# Altium schematic symbol library Regulator_Linear.SchLib: 1620 symbols (part 12 of 16)
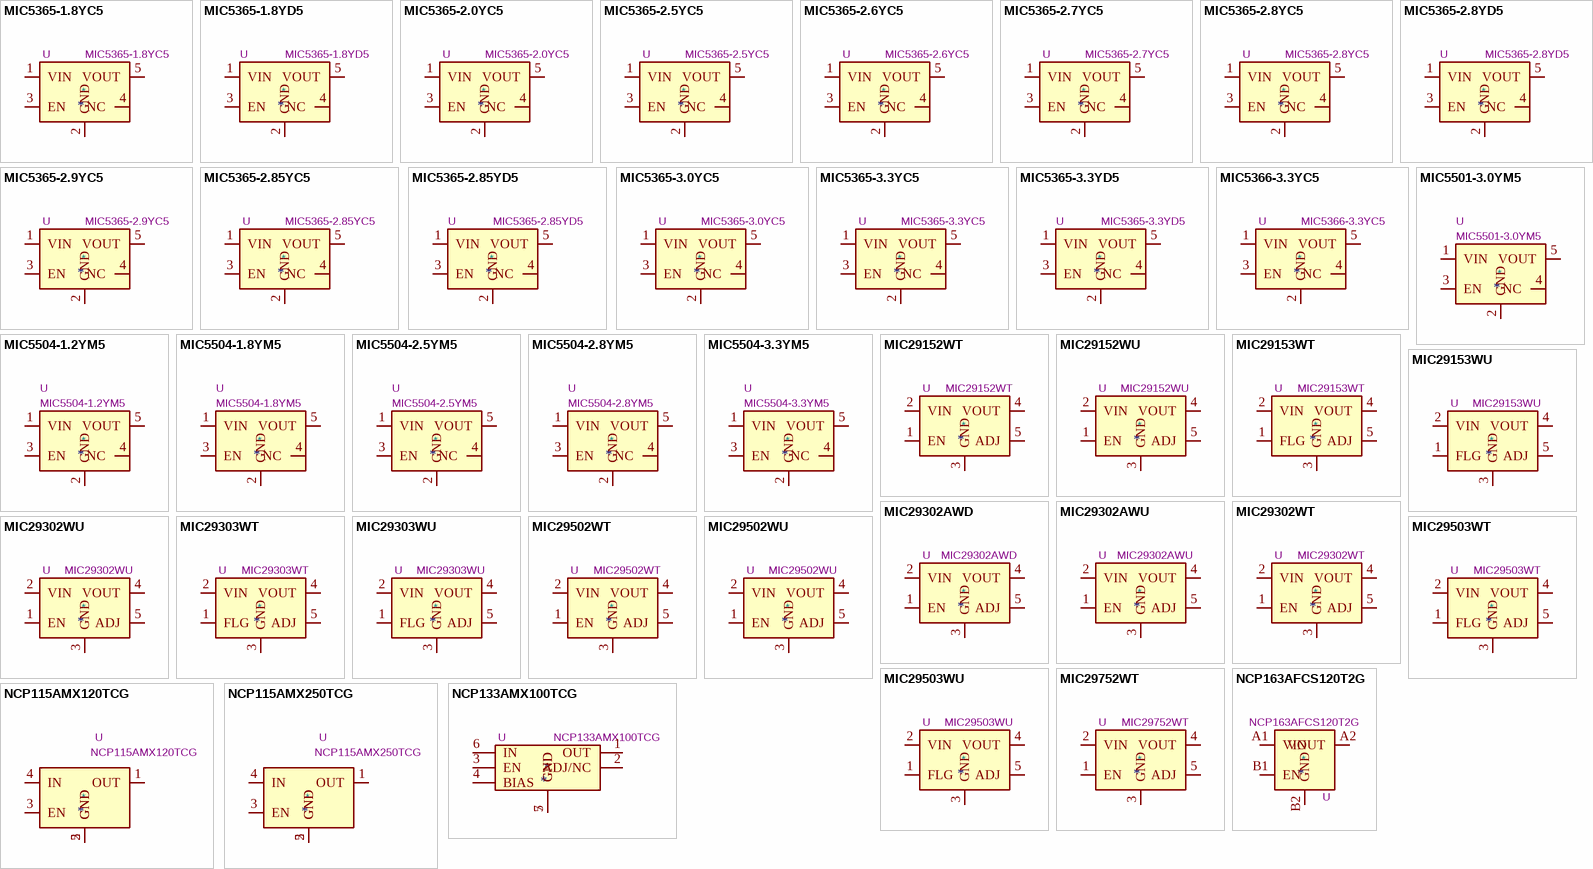
[diagram p51: symbols MIC5365-1.8YC5 to NCP163AFCS120T2G]

## MIC29503WT
designator *  value MIC29503WT  Reference: U
5A low dropout linear regulator, adjustable output, TO-220; ki_keywords: 5A LDO linear voltage regulator adjustable positive; ki_fp_filters: TO*220*; Footprint: Package_TO_SOT_THT:TO-220-5_P3.4x3.7mm_StaggerEven_Lead3.8mm_Vertical; Datasheet: http://ww1.microchip.com/downloads/en/devicedoc/20005685a.pdf; Description_: 5A low dropout linear regulator, adjustable output, TO-220
pins: 1 FLG, 2 VIN, 3 GND, 4 VOUT, 5 ADJ

## MIC29503WU
designator *  value MIC29503WU  Reference: U
5A low dropout linear regulator, adjustable output, TO-263; ki_keywords: 5A LDO linear voltage regulator adjustable positive; ki_fp_filters: TO*263*; Footprint: Package_TO_SOT_SMD:TO-263-5_TabPin3; Datasheet: http://ww1.microchip.com/downloads/en/devicedoc/20005685a.pdf; Description_: 5A low dropout linear regulator, adjustable output, TO-263
pins: 1 FLG, 2 VIN, 3 GND, 4 VOUT, 5 ADJ

## MIC29752WT
designator *  value MIC29752WT  Reference: U
7.5A low dropout linear regulator, adjustable output, TO-247; ki_keywords: 7.5A LDO linear voltage regulator adjustable positive; ki_fp_filters: TO*247*; Footprint: Package_TO_SOT_THT:TO-247-5_Vertical; Datasheet: http://ww1.microchip.com/downloads/en/devicedoc/20005685a.pdf; Description_: 7.5A low dropout linear regulator, adjustable output, TO-247
pins: 1 EN, 2 VIN, 3 GND, 4 VOUT, 5 ADJ

## NCP115AMX120TCG
designator *  value NCP115AMX120TCG  Reference: U
300mA Low-Dropout Linear Regulators, 1.2V output voltage, LDO with low noise and enable pin, XDFN-4; ki_keywords: Single Output LDO; ki_fp_filters: OnSemi*XDFN4*1EP*1.0x1.0mm*; Footprint: Package_DFN_QFN:OnSemi_XDFN4-1EP_1.0x1.0mm_EP0.52x0.52mm; Datasheet: https://www.onsemi.com/pub/Collateral/NCP115-D.PDF; Description_: 300mA Low-Dropout Linear Regulators, 1.2V output voltage, LDO with low noise and enable pin, XDFN-4
pins: 1 OUT, 2 GND, 3 EN, 4 IN, 5 GND

## NCP115AMX250TCG
designator *  value NCP115AMX250TCG  Reference: U
300mA Low-Dropout Linear Regulators, 2.5V output voltage, LDO with low noise and enable pin, XDFN-4; ki_keywords: Single Output LDO; ki_fp_filters: OnSemi*XDFN4*1EP*1.0x1.0mm*; Footprint: Package_DFN_QFN:OnSemi_XDFN4-1EP_1.0x1.0mm_EP0.52x0.52mm; Datasheet: https://www.onsemi.com/pub/Collateral/NCP115-D.PDF; Description_: 300mA Low-Dropout Linear Regulators, 2.5V output voltage, LDO with low noise and enable pin, XDFN-4
pins: 1 OUT, 2 GND, 3 EN, 4 IN, 5 GND

## NCP133AMX100TCG
designator *  value NCP133AMX100TCG  Reference: U
500  mA  VLDO  equipped  with  NMOS  pass transistor  and  a  separate  bias  supply  voltage; ki_keywords: Single Output LDO; ki_fp_filters: DFN?6?1EP*1.2x1.2mm*P0.4mm*; Datasheet: http://www.onsemi.com/pub/Collateral/NCP133-D.PDF; Description_: 500  mA  VLDO  equipped  with  NMOS  pass transistor  and  a  separate  bias  supply  voltage
pins: 1 OUT, 2 ADJ/NC, 3 EN, 4 BIAS, 5 GND, 6 IN, 7 GND

## NCP163AFCS120T2G
designator *  value NCP163AFCS120T2G  Reference: U
250mA low-noise LDO, 2.2V-5.5V input, 1.2V output, WLCSP-4; ki_keywords: LDO regulator voltage; ki_fp_filters: WLCSP*0.64x0.64mm*Layout2x2*P0.35mm*; Footprint: Package_CSP:WLCSP-4_0.64x0.64mm_Layout2x2_P0.35mm; Datasheet: https://www.onsemi.com/pdf/datasheet/ncp163-d.pdf; Description_: 250mA low-noise LDO, 2.2V-5.5V input, 1.2V output, WLCSP-4
pins: A1 VIN, A2 VOUT, B1 EN, B2 GND

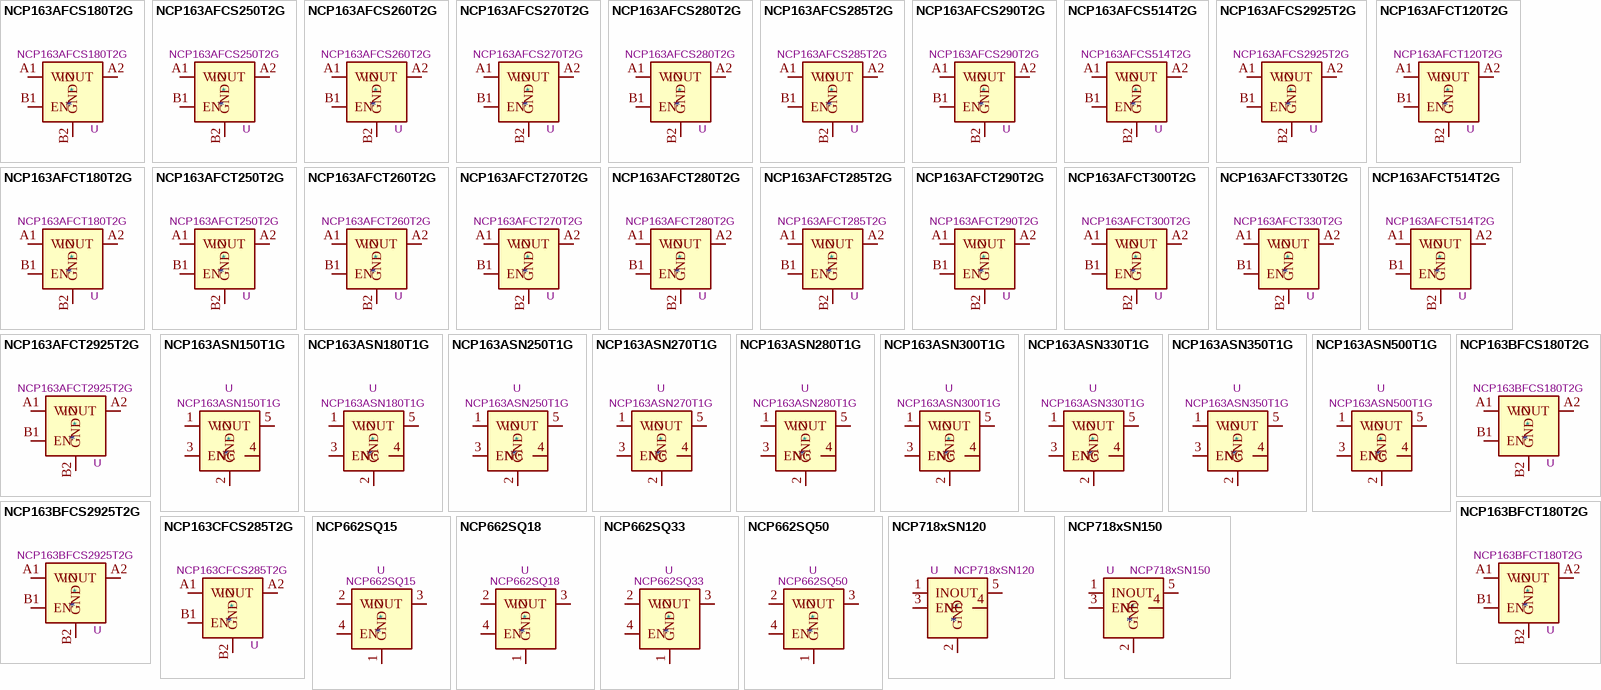
[diagram p29: symbols NCP163AFCS180T2G to NCP718xSN150]

## NCP163AFCS180T2G
designator *  value NCP163AFCS180T2G  Reference: U
250mA low-noise LDO, 2.2V-5.5V input, 1.8V output, WLCSP-4; ki_keywords: LDO regulator voltage; ki_fp_filters: WLCSP*0.64x0.64mm*Layout2x2*P0.35mm*; Footprint: Package_CSP:WLCSP-4_0.64x0.64mm_Layout2x2_P0.35mm; Datasheet: https://www.onsemi.com/pdf/datasheet/ncp163-d.pdf; Description_: 250mA low-noise LDO, 2.2V-5.5V input, 1.8V output, WLCSP-4
pins: A1 VIN, A2 VOUT, B1 EN, B2 GND

## NCP163AFCS250T2G
designator *  value NCP163AFCS250T2G  Reference: U
250mA low-noise LDO, 2.2V-5.5V input, 2.5V output, WLCSP-4; ki_keywords: LDO regulator voltage; ki_fp_filters: WLCSP*0.64x0.64mm*Layout2x2*P0.35mm*; Footprint: Package_CSP:WLCSP-4_0.64x0.64mm_Layout2x2_P0.35mm; Datasheet: https://www.onsemi.com/pdf/datasheet/ncp163-d.pdf; Description_: 250mA low-noise LDO, 2.2V-5.5V input, 2.5V output, WLCSP-4
pins: A1 VIN, A2 VOUT, B1 EN, B2 GND

## NCP163AFCS260T2G
designator *  value NCP163AFCS260T2G  Reference: U
250mA low-noise LDO, 2.2V-5.5V input, 2.6V output, WLCSP-4; ki_keywords: LDO regulator voltage; ki_fp_filters: WLCSP*0.64x0.64mm*Layout2x2*P0.35mm*; Footprint: Package_CSP:WLCSP-4_0.64x0.64mm_Layout2x2_P0.35mm; Datasheet: https://www.onsemi.com/pdf/datasheet/ncp163-d.pdf; Description_: 250mA low-noise LDO, 2.2V-5.5V input, 2.6V output, WLCSP-4
pins: A1 VIN, A2 VOUT, B1 EN, B2 GND

## NCP163AFCS270T2G
designator *  value NCP163AFCS270T2G  Reference: U
250mA low-noise LDO, 2.2V-5.5V input, 2.7V output, WLCSP-4; ki_keywords: LDO regulator voltage; ki_fp_filters: WLCSP*0.64x0.64mm*Layout2x2*P0.35mm*; Footprint: Package_CSP:WLCSP-4_0.64x0.64mm_Layout2x2_P0.35mm; Datasheet: https://www.onsemi.com/pdf/datasheet/ncp163-d.pdf; Description_: 250mA low-noise LDO, 2.2V-5.5V input, 2.7V output, WLCSP-4
pins: A1 VIN, A2 VOUT, B1 EN, B2 GND

## NCP163AFCS280T2G
designator *  value NCP163AFCS280T2G  Reference: U
250mA low-noise LDO, 2.2V-5.5V input, 2.8V output, WLCSP-4; ki_keywords: LDO regulator voltage; ki_fp_filters: WLCSP*0.64x0.64mm*Layout2x2*P0.35mm*; Footprint: Package_CSP:WLCSP-4_0.64x0.64mm_Layout2x2_P0.35mm; Datasheet: https://www.onsemi.com/pdf/datasheet/ncp163-d.pdf; Description_: 250mA low-noise LDO, 2.2V-5.5V input, 2.8V output, WLCSP-4
pins: A1 VIN, A2 VOUT, B1 EN, B2 GND

## NCP163AFCS285T2G
designator *  value NCP163AFCS285T2G  Reference: U
250mA low-noise LDO, 2.2V-5.5V input, 2.85V output, WLCSP-4; ki_keywords: LDO regulator voltage; ki_fp_filters: WLCSP*0.64x0.64mm*Layout2x2*P0.35mm*; Footprint: Package_CSP:WLCSP-4_0.64x0.64mm_Layout2x2_P0.35mm; Datasheet: https://www.onsemi.com/pdf/datasheet/ncp163-d.pdf; Description_: 250mA low-noise LDO, 2.2V-5.5V input, 2.85V output, WLCSP-4
pins: A1 VIN, A2 VOUT, B1 EN, B2 GND

## NCP163AFCS290T2G
designator *  value NCP163AFCS290T2G  Reference: U
250mA low-noise LDO, 2.2V-5.5V input, 2.9V output, WLCSP-4; ki_keywords: LDO regulator voltage; ki_fp_filters: WLCSP*0.64x0.64mm*Layout2x2*P0.35mm*; Footprint: Package_CSP:WLCSP-4_0.64x0.64mm_Layout2x2_P0.35mm; Datasheet: https://www.onsemi.com/pdf/datasheet/ncp163-d.pdf; Description_: 250mA low-noise LDO, 2.2V-5.5V input, 2.9V output, WLCSP-4
pins: A1 VIN, A2 VOUT, B1 EN, B2 GND

## NCP163AFCS514T2G
designator *  value NCP163AFCS514T2G  Reference: U
250mA low-noise LDO, 2.2V-5.5V input, 5.14V output, WLCSP-4; ki_keywords: LDO regulator voltage; ki_fp_filters: WLCSP*0.64x0.64mm*Layout2x2*P0.35mm*; Footprint: Package_CSP:WLCSP-4_0.64x0.64mm_Layout2x2_P0.35mm; Datasheet: https://www.onsemi.com/pdf/datasheet/ncp163-d.pdf; Description_: 250mA low-noise LDO, 2.2V-5.5V input, 5.14V output, WLCSP-4
pins: A1 VIN, A2 VOUT, B1 EN, B2 GND

## NCP163AFCS2925T2G
designator *  value NCP163AFCS2925T2G  Reference: U
250mA low-noise LDO, 2.2V-5.5V input, 2.925V output, WLCSP-4; ki_keywords: LDO regulator voltage; ki_fp_filters: WLCSP*0.64x0.64mm*Layout2x2*P0.35mm*; Footprint: Package_CSP:WLCSP-4_0.64x0.64mm_Layout2x2_P0.35mm; Datasheet: https://www.onsemi.com/pdf/datasheet/ncp163-d.pdf; Description_: 250mA low-noise LDO, 2.2V-5.5V input, 2.925V output, WLCSP-4
pins: A1 VIN, A2 VOUT, B1 EN, B2 GND

## NCP163AFCT120T2G
designator *  value NCP163AFCT120T2G  Reference: U
250mA low-noise LDO, 2.2V-5.5V input, 1.2V output, WLCSP-4; ki_keywords: LDO regulator voltage; ki_fp_filters: WLCSP*0.64x0.64mm*Layout2x2*P0.35mm*; Footprint: Package_CSP:WLCSP-4_0.64x0.64mm_Layout2x2_P0.35mm; Datasheet: https://www.onsemi.com/pdf/datasheet/ncp163-d.pdf; Description_: 250mA low-noise LDO, 2.2V-5.5V input, 1.2V output, WLCSP-4
pins: A1 VIN, A2 VOUT, B1 EN, B2 GND

## NCP163AFCT180T2G
designator *  value NCP163AFCT180T2G  Reference: U
250mA low-noise LDO, 2.2V-5.5V input, 1.8V output, WLCSP-4; ki_keywords: LDO regulator voltage; ki_fp_filters: WLCSP*0.64x0.64mm*Layout2x2*P0.35mm*; Footprint: Package_CSP:WLCSP-4_0.64x0.64mm_Layout2x2_P0.35mm; Datasheet: https://www.onsemi.com/pdf/datasheet/ncp163-d.pdf; Description_: 250mA low-noise LDO, 2.2V-5.5V input, 1.8V output, WLCSP-4
pins: A1 VIN, A2 VOUT, B1 EN, B2 GND

## NCP163AFCT250T2G
designator *  value NCP163AFCT250T2G  Reference: U
250mA low-noise LDO, 2.2V-5.5V input, 2.5V output, WLCSP-4; ki_keywords: LDO regulator voltage; ki_fp_filters: WLCSP*0.64x0.64mm*Layout2x2*P0.35mm*; Footprint: Package_CSP:WLCSP-4_0.64x0.64mm_Layout2x2_P0.35mm; Datasheet: https://www.onsemi.com/pdf/datasheet/ncp163-d.pdf; Description_: 250mA low-noise LDO, 2.2V-5.5V input, 2.5V output, WLCSP-4
pins: A1 VIN, A2 VOUT, B1 EN, B2 GND

## NCP163AFCT260T2G
designator *  value NCP163AFCT260T2G  Reference: U
250mA low-noise LDO, 2.2V-5.5V input, 2.6V output, WLCSP-4; ki_keywords: LDO regulator voltage; ki_fp_filters: WLCSP*0.64x0.64mm*Layout2x2*P0.35mm*; Footprint: Package_CSP:WLCSP-4_0.64x0.64mm_Layout2x2_P0.35mm; Datasheet: https://www.onsemi.com/pdf/datasheet/ncp163-d.pdf; Description_: 250mA low-noise LDO, 2.2V-5.5V input, 2.6V output, WLCSP-4
pins: A1 VIN, A2 VOUT, B1 EN, B2 GND

## NCP163AFCT270T2G
designator *  value NCP163AFCT270T2G  Reference: U
250mA low-noise LDO, 2.2V-5.5V input, 2.7V output, WLCSP-4; ki_keywords: LDO regulator voltage; ki_fp_filters: WLCSP*0.64x0.64mm*Layout2x2*P0.35mm*; Footprint: Package_CSP:WLCSP-4_0.64x0.64mm_Layout2x2_P0.35mm; Datasheet: https://www.onsemi.com/pdf/datasheet/ncp163-d.pdf; Description_: 250mA low-noise LDO, 2.2V-5.5V input, 2.7V output, WLCSP-4
pins: A1 VIN, A2 VOUT, B1 EN, B2 GND

## NCP163AFCT280T2G
designator *  value NCP163AFCT280T2G  Reference: U
250mA low-noise LDO, 2.2V-5.5V input, 2.8V output, WLCSP-4; ki_keywords: LDO regulator voltage; ki_fp_filters: WLCSP*0.64x0.64mm*Layout2x2*P0.35mm*; Footprint: Package_CSP:WLCSP-4_0.64x0.64mm_Layout2x2_P0.35mm; Datasheet: https://www.onsemi.com/pdf/datasheet/ncp163-d.pdf; Description_: 250mA low-noise LDO, 2.2V-5.5V input, 2.8V output, WLCSP-4
pins: A1 VIN, A2 VOUT, B1 EN, B2 GND

## NCP163AFCT285T2G
designator *  value NCP163AFCT285T2G  Reference: U
250mA low-noise LDO, 2.2V-5.5V input, 2.85V output, WLCSP-4; ki_keywords: LDO regulator voltage; ki_fp_filters: WLCSP*0.64x0.64mm*Layout2x2*P0.35mm*; Footprint: Package_CSP:WLCSP-4_0.64x0.64mm_Layout2x2_P0.35mm; Datasheet: https://www.onsemi.com/pdf/datasheet/ncp163-d.pdf; Description_: 250mA low-noise LDO, 2.2V-5.5V input, 2.85V output, WLCSP-4
pins: A1 VIN, A2 VOUT, B1 EN, B2 GND

## NCP163AFCT290T2G
designator *  value NCP163AFCT290T2G  Reference: U
250mA low-noise LDO, 2.2V-5.5V input, 2.9V output, WLCSP-4; ki_keywords: LDO regulator voltage; ki_fp_filters: WLCSP*0.64x0.64mm*Layout2x2*P0.35mm*; Footprint: Package_CSP:WLCSP-4_0.64x0.64mm_Layout2x2_P0.35mm; Datasheet: https://www.onsemi.com/pdf/datasheet/ncp163-d.pdf; Description_: 250mA low-noise LDO, 2.2V-5.5V input, 2.9V output, WLCSP-4
pins: A1 VIN, A2 VOUT, B1 EN, B2 GND

## NCP163AFCT300T2G
designator *  value NCP163AFCT300T2G  Reference: U
250mA low-noise LDO, 2.2V-5.5V input, 3.0V output, WLCSP-4; ki_keywords: LDO regulator voltage; ki_fp_filters: WLCSP*0.64x0.64mm*Layout2x2*P0.35mm*; Footprint: Package_CSP:WLCSP-4_0.64x0.64mm_Layout2x2_P0.35mm; Datasheet: https://www.onsemi.com/pdf/datasheet/ncp163-d.pdf; Description_: 250mA low-noise LDO, 2.2V-5.5V input, 3.0V output, WLCSP-4
pins: A1 VIN, A2 VOUT, B1 EN, B2 GND

## NCP163AFCT330T2G
designator *  value NCP163AFCT330T2G  Reference: U
250mA low-noise LDO, 2.2V-5.5V input, 3.3V output, WLCSP-4; ki_keywords: LDO regulator voltage; ki_fp_filters: WLCSP*0.64x0.64mm*Layout2x2*P0.35mm*; Footprint: Package_CSP:WLCSP-4_0.64x0.64mm_Layout2x2_P0.35mm; Datasheet: https://www.onsemi.com/pdf/datasheet/ncp163-d.pdf; Description_: 250mA low-noise LDO, 2.2V-5.5V input, 3.3V output, WLCSP-4
pins: A1 VIN, A2 VOUT, B1 EN, B2 GND

## NCP163AFCT514T2G
designator *  value NCP163AFCT514T2G  Reference: U
250mA low-noise LDO, 2.2V-5.5V input, 5.14V output, WLCSP-4; ki_keywords: LDO regulator voltage; ki_fp_filters: WLCSP*0.64x0.64mm*Layout2x2*P0.35mm*; Footprint: Package_CSP:WLCSP-4_0.64x0.64mm_Layout2x2_P0.35mm; Datasheet: https://www.onsemi.com/pdf/datasheet/ncp163-d.pdf; Description_: 250mA low-noise LDO, 2.2V-5.5V input, 5.14V output, WLCSP-4
pins: A1 VIN, A2 VOUT, B1 EN, B2 GND

## NCP163AFCT2925T2G
designator *  value NCP163AFCT2925T2G  Reference: U
250mA low-noise LDO, 2.2V-5.5V input, 2.925V output, WLCSP-4; ki_keywords: LDO regulator voltage; ki_fp_filters: WLCSP*0.64x0.64mm*Layout2x2*P0.35mm*; Footprint: Package_CSP:WLCSP-4_0.64x0.64mm_Layout2x2_P0.35mm; Datasheet: https://www.onsemi.com/pdf/datasheet/ncp163-d.pdf; Description_: 250mA low-noise LDO, 2.2V-5.5V input, 2.925V output, WLCSP-4
pins: A1 VIN, A2 VOUT, B1 EN, B2 GND

## NCP163ASN150T1G
designator *  value NCP163ASN150T1G  Reference: U
250mA low-noise LDO, 2.2V-5.5V input, 1.5V output, SOT-23-5; ki_keywords: LDO regulator voltage; ki_fp_filters: SOT?23*; Footprint: Package_TO_SOT_SMD:SOT-23-5; Datasheet: https://www.onsemi.com/pdf/datasheet/ncp163-d.pdf; Description_: 250mA low-noise LDO, 2.2V-5.5V input, 1.5V output, SOT-23-5
pins: 1 VIN, 2 GND, 3 EN, 4 NC, 5 VOUT

## NCP163ASN180T1G
designator *  value NCP163ASN180T1G  Reference: U
250mA low-noise LDO, 2.2V-5.5V input, 1.8V output, SOT-23-5; ki_keywords: LDO regulator voltage; ki_fp_filters: SOT?23*; Footprint: Package_TO_SOT_SMD:SOT-23-5; Datasheet: https://www.onsemi.com/pdf/datasheet/ncp163-d.pdf; Description_: 250mA low-noise LDO, 2.2V-5.5V input, 1.8V output, SOT-23-5
pins: 1 VIN, 2 GND, 3 EN, 4 NC, 5 VOUT

## NCP163ASN250T1G
designator *  value NCP163ASN250T1G  Reference: U
250mA low-noise LDO, 2.2V-5.5V input, 2.5V output, SOT-23-5; ki_keywords: LDO regulator voltage; ki_fp_filters: SOT?23*; Footprint: Package_TO_SOT_SMD:SOT-23-5; Datasheet: https://www.onsemi.com/pdf/datasheet/ncp163-d.pdf; Description_: 250mA low-noise LDO, 2.2V-5.5V input, 2.5V output, SOT-23-5
pins: 1 VIN, 2 GND, 3 EN, 4 NC, 5 VOUT

## NCP163ASN270T1G
designator *  value NCP163ASN270T1G  Reference: U
250mA low-noise LDO, 2.2V-5.5V input, 2.7V output, SOT-23-5; ki_keywords: LDO regulator voltage; ki_fp_filters: SOT?23*; Footprint: Package_TO_SOT_SMD:SOT-23-5; Datasheet: https://www.onsemi.com/pdf/datasheet/ncp163-d.pdf; Description_: 250mA low-noise LDO, 2.2V-5.5V input, 2.7V output, SOT-23-5
pins: 1 VIN, 2 GND, 3 EN, 4 NC, 5 VOUT

## NCP163ASN280T1G
designator *  value NCP163ASN280T1G  Reference: U
250mA low-noise LDO, 2.2V-5.5V input, 2.8V output, SOT-23-5; ki_keywords: LDO regulator voltage; ki_fp_filters: SOT?23*; Footprint: Package_TO_SOT_SMD:SOT-23-5; Datasheet: https://www.onsemi.com/pdf/datasheet/ncp163-d.pdf; Description_: 250mA low-noise LDO, 2.2V-5.5V input, 2.8V output, SOT-23-5
pins: 1 VIN, 2 GND, 3 EN, 4 NC, 5 VOUT

## NCP163ASN300T1G
designator *  value NCP163ASN300T1G  Reference: U
250mA low-noise LDO, 2.2V-5.5V input, 3.0V output, SOT-23-5; ki_keywords: LDO regulator voltage; ki_fp_filters: SOT?23*; Footprint: Package_TO_SOT_SMD:SOT-23-5; Datasheet: https://www.onsemi.com/pdf/datasheet/ncp163-d.pdf; Description_: 250mA low-noise LDO, 2.2V-5.5V input, 3.0V output, SOT-23-5
pins: 1 VIN, 2 GND, 3 EN, 4 NC, 5 VOUT

## NCP163ASN330T1G
designator *  value NCP163ASN330T1G  Reference: U
250mA low-noise LDO, 2.2V-5.5V input, 3.3V output, SOT-23-5; ki_keywords: LDO regulator voltage; ki_fp_filters: SOT?23*; Footprint: Package_TO_SOT_SMD:SOT-23-5; Datasheet: https://www.onsemi.com/pdf/datasheet/ncp163-d.pdf; Description_: 250mA low-noise LDO, 2.2V-5.5V input, 3.3V output, SOT-23-5
pins: 1 VIN, 2 GND, 3 EN, 4 NC, 5 VOUT

## NCP163ASN350T1G
designator *  value NCP163ASN350T1G  Reference: U
250mA low-noise LDO, 2.2V-5.5V input, 3.5V output, SOT-23-5; ki_keywords: LDO regulator voltage; ki_fp_filters: SOT?23*; Footprint: Package_TO_SOT_SMD:SOT-23-5; Datasheet: https://www.onsemi.com/pdf/datasheet/ncp163-d.pdf; Description_: 250mA low-noise LDO, 2.2V-5.5V input, 3.5V output, SOT-23-5
pins: 1 VIN, 2 GND, 3 EN, 4 NC, 5 VOUT

## NCP163ASN500T1G
designator *  value NCP163ASN500T1G  Reference: U
250mA low-noise LDO, 2.2V-5.5V input, 5.0V output, SOT-23-5; ki_keywords: LDO regulator voltage; ki_fp_filters: SOT?23*; Footprint: Package_TO_SOT_SMD:SOT-23-5; Datasheet: https://www.onsemi.com/pdf/datasheet/ncp163-d.pdf; Description_: 250mA low-noise LDO, 2.2V-5.5V input, 5.0V output, SOT-23-5
pins: 1 VIN, 2 GND, 3 EN, 4 NC, 5 VOUT

## NCP163BFCS180T2G
designator *  value NCP163BFCS180T2G  Reference: U
250mA low-noise LDO, 2.2V-5.5V input, 1.8V output, WLCSP-4; ki_keywords: LDO regulator voltage; ki_fp_filters: WLCSP*0.64x0.64mm*Layout2x2*P0.35mm*; Footprint: Package_CSP:WLCSP-4_0.64x0.64mm_Layout2x2_P0.35mm; Datasheet: https://www.onsemi.com/pdf/datasheet/ncp163-d.pdf; Description_: 250mA low-noise LDO, 2.2V-5.5V input, 1.8V output, WLCSP-4
pins: A1 VIN, A2 VOUT, B1 EN, B2 GND

## NCP163BFCS2925T2G
designator *  value NCP163BFCS2925T2G  Reference: U
250mA low-noise LDO, 2.2V-5.5V input, 2.925V output, WLCSP-4; ki_keywords: LDO regulator voltage; ki_fp_filters: WLCSP*0.64x0.64mm*Layout2x2*P0.35mm*; Footprint: Package_CSP:WLCSP-4_0.64x0.64mm_Layout2x2_P0.35mm; Datasheet: https://www.onsemi.com/pdf/datasheet/ncp163-d.pdf; Description_: 250mA low-noise LDO, 2.2V-5.5V input, 2.925V output, WLCSP-4
pins: A1 VIN, A2 VOUT, B1 EN, B2 GND

## NCP163BFCT180T2G
designator *  value NCP163BFCT180T2G  Reference: U
250mA low-noise LDO, 2.2V-5.5V input, 2.925V output, WLCSP-4; ki_keywords: LDO regulator voltage; ki_fp_filters: WLCSP*0.64x0.64mm*Layout2x2*P0.35mm*; Footprint: Package_CSP:WLCSP-4_0.64x0.64mm_Layout2x2_P0.35mm; Datasheet: https://www.onsemi.com/pdf/datasheet/ncp163-d.pdf; Description_: 250mA low-noise LDO, 2.2V-5.5V input, 2.925V output, WLCSP-4
pins: A1 VIN, A2 VOUT, B1 EN, B2 GND

## NCP163CFCS285T2G
designator *  value NCP163CFCS285T2G  Reference: U
250mA low-noise LDO, 2.2V-5.5V input, 2.85V output, WLCSP-4; ki_keywords: LDO regulator voltage; ki_fp_filters: WLCSP*0.64x0.64mm*Layout2x2*P0.35mm*; Footprint: Package_CSP:WLCSP-4_0.64x0.64mm_Layout2x2_P0.35mm; Datasheet: https://www.onsemi.com/pdf/datasheet/ncp163-d.pdf; Description_: 250mA low-noise LDO, 2.2V-5.5V input, 2.85V output, WLCSP-4
pins: A1 VIN, A2 VOUT, B1 EN, B2 GND

## NCP662SQ15
designator *  value NCP662SQ15  Reference: U
100-mA, 12V Max. Input, Ultralow-IQ LDO, 1.5V, SC-82AB; ki_keywords: LDO regulator voltage; ki_fp_filters: SC?82AB*; Footprint: Package_TO_SOT_SMD:SC-82AB; Datasheet: https://www.onsemi.com/pub/Collateral/NCP662-D.PDF; Description_: 100-mA, 12V Max. Input, Ultralow-IQ LDO, 1.5V, SC-82AB
pins: 1 GND, 2 VIN, 3 VOUT, 4 EN

## NCP662SQ18
designator *  value NCP662SQ18  Reference: U
100-mA, 12V Max. Input, Ultralow-IQ LDO, 1.8V, SC-82AB; ki_keywords: LDO regulator voltage; ki_fp_filters: SC?82AB*; Footprint: Package_TO_SOT_SMD:SC-82AB; Datasheet: https://www.onsemi.com/pub/Collateral/NCP662-D.PDF; Description_: 100-mA, 12V Max. Input, Ultralow-IQ LDO, 1.8V, SC-82AB
pins: 1 GND, 2 VIN, 3 VOUT, 4 EN

## NCP662SQ33
designator *  value NCP662SQ33  Reference: U
100-mA, 12V Max. Input, Ultralow-IQ LDO, 3.3V, SC-82AB; ki_keywords: LDO regulator voltage; ki_fp_filters: SC?82AB*; Footprint: Package_TO_SOT_SMD:SC-82AB; Datasheet: https://www.onsemi.com/pub/Collateral/NCP662-D.PDF; Description_: 100-mA, 12V Max. Input, Ultralow-IQ LDO, 3.3V, SC-82AB
pins: 1 GND, 2 VIN, 3 VOUT, 4 EN

## NCP662SQ50
designator *  value NCP662SQ50  Reference: U
100-mA, 12V Max. Input, Ultralow-IQ LDO, 5.0V, SC-82AB; ki_keywords: LDO regulator voltage; ki_fp_filters: SC?82AB*; Footprint: Package_TO_SOT_SMD:SC-82AB; Datasheet: https://www.onsemi.com/pub/Collateral/NCP662-D.PDF; Description_: 100-mA, 12V Max. Input, Ultralow-IQ LDO, 5.0V, SC-82AB
pins: 1 GND, 2 VIN, 3 VOUT, 4 EN

## NCP718xSN120
designator *  value NCP718xSN120  Reference: U
300-mA, Wide Input Voltage, Low-IQ LDO, 1.2V, SOT-23; ki_keywords: Single Output LDO Wide Input; ki_fp_filters: SOT?23*; Footprint: Package_TO_SOT_SMD:SOT-23-5; Datasheet: https://www.onsemi.com/pub/Collateral/NCP718-D.PDF; Description_: 300-mA, Wide Input Voltage, Low-IQ LDO, 1.2V, SOT-23
pins: 1 IN, 2 GND, 3 EN, 4 NC, 5 OUT

## NCP718xSN150
designator *  value NCP718xSN150  Reference: U
300-mA, Wide Input Voltage, Low-IQ LDO, 1.5V, SOT-23; ki_keywords: Single Output LDO Wide Input; ki_fp_filters: SOT?23*; Footprint: Package_TO_SOT_SMD:SOT-23-5; Datasheet: https://www.onsemi.com/pub/Collateral/NCP718-D.PDF; Description_: 300-mA, Wide Input Voltage, Low-IQ LDO, 1.5V, SOT-23
pins: 1 IN, 2 GND, 3 EN, 4 NC, 5 OUT

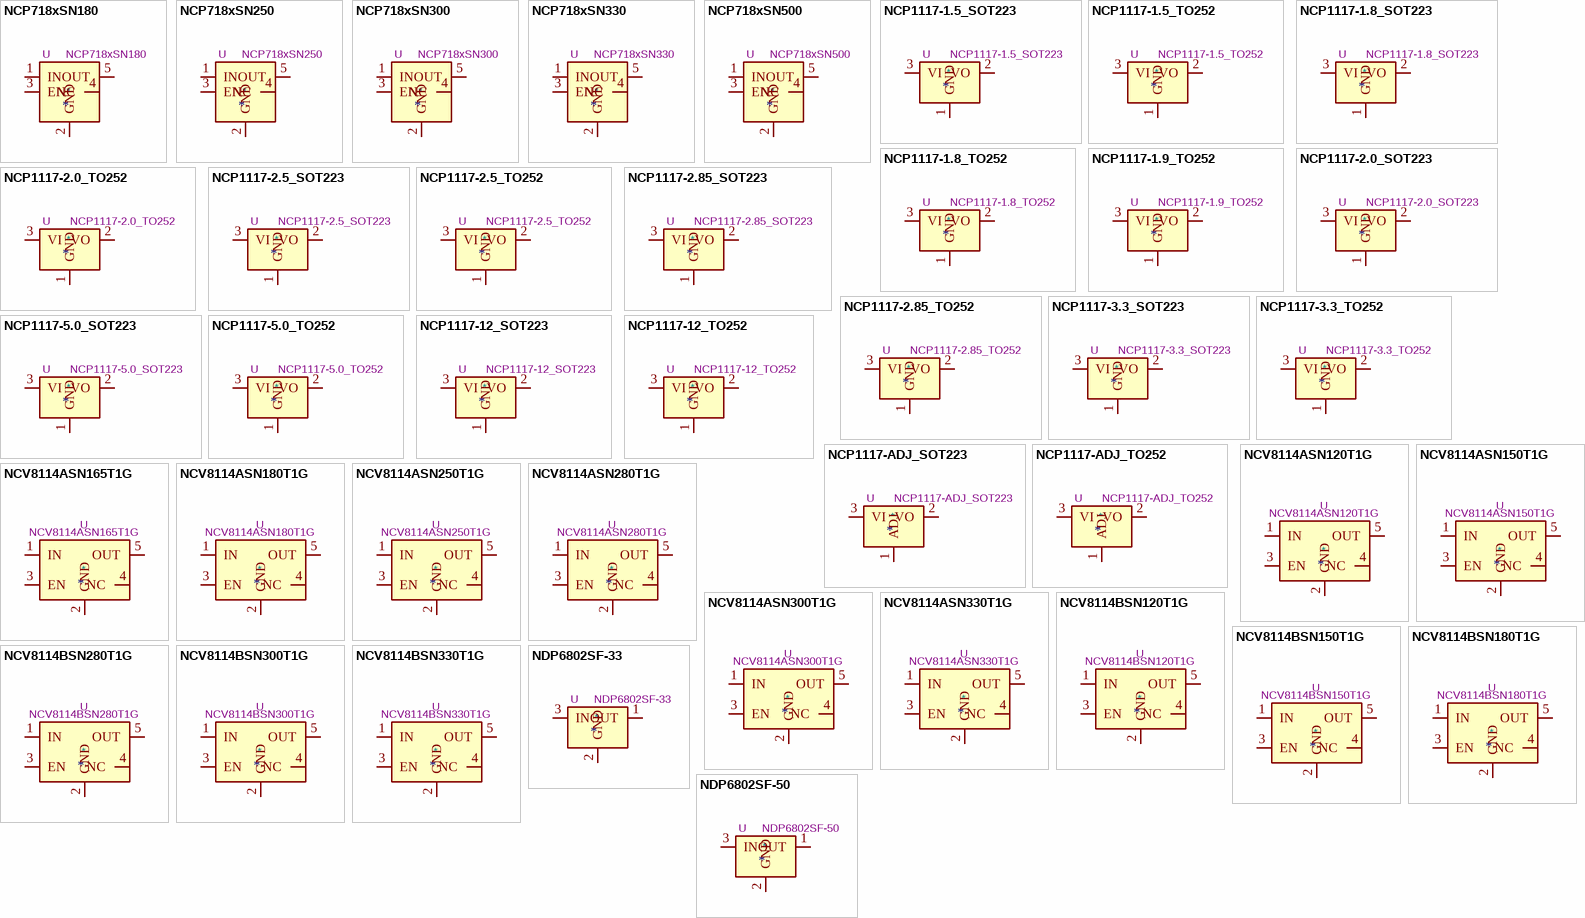
[diagram p30: symbols NCP718xSN180 to NDP6802SF-50]

## NCP718xSN180
designator *  value NCP718xSN180  Reference: U
300-mA, Wide Input Voltage, Low-IQ LDO, 1.8V, SOT-23; ki_keywords: Single Output LDO Wide Input; ki_fp_filters: SOT?23*; Footprint: Package_TO_SOT_SMD:SOT-23-5; Datasheet: https://www.onsemi.com/pub/Collateral/NCP718-D.PDF; Description_: 300-mA, Wide Input Voltage, Low-IQ LDO, 1.8V, SOT-23
pins: 1 IN, 2 GND, 3 EN, 4 NC, 5 OUT

## NCP718xSN250
designator *  value NCP718xSN250  Reference: U
300-mA, Wide Input Voltage, Low-IQ LDO, 2.5V, SOT-23; ki_keywords: Single Output LDO Wide Input; ki_fp_filters: SOT?23*; Footprint: Package_TO_SOT_SMD:SOT-23-5; Datasheet: https://www.onsemi.com/pub/Collateral/NCP718-D.PDF; Description_: 300-mA, Wide Input Voltage, Low-IQ LDO, 2.5V, SOT-23
pins: 1 IN, 2 GND, 3 EN, 4 NC, 5 OUT

## NCP718xSN300
designator *  value NCP718xSN300  Reference: U
300-mA, Wide Input Voltage, Low-IQ LDO, 3.0V, SOT-23; ki_keywords: Single Output LDO Wide Input; ki_fp_filters: SOT?23*; Footprint: Package_TO_SOT_SMD:SOT-23-5; Datasheet: https://www.onsemi.com/pub/Collateral/NCP718-D.PDF; Description_: 300-mA, Wide Input Voltage, Low-IQ LDO, 3.0V, SOT-23
pins: 1 IN, 2 GND, 3 EN, 4 NC, 5 OUT

## NCP718xSN330
designator *  value NCP718xSN330  Reference: U
300-mA, Wide Input Voltage, Low-IQ LDO, 3.3V, SOT-23; ki_keywords: Single Output LDO Wide Input; ki_fp_filters: SOT?23*; Footprint: Package_TO_SOT_SMD:SOT-23-5; Datasheet: https://www.onsemi.com/pub/Collateral/NCP718-D.PDF; Description_: 300-mA, Wide Input Voltage, Low-IQ LDO, 3.3V, SOT-23
pins: 1 IN, 2 GND, 3 EN, 4 NC, 5 OUT

## NCP718xSN500
designator *  value NCP718xSN500  Reference: U
300-mA, Wide Input Voltage, Low-IQ LDO, 5.0V, SOT-23; ki_keywords: Single Output LDO Wide Input; ki_fp_filters: SOT?23*; Footprint: Package_TO_SOT_SMD:SOT-23-5; Datasheet: https://www.onsemi.com/pub/Collateral/NCP718-D.PDF; Description_: 300-mA, Wide Input Voltage, Low-IQ LDO, 5.0V, SOT-23
pins: 1 IN, 2 GND, 3 EN, 4 NC, 5 OUT

## NCP1117-1.5_SOT223
designator *  value NCP1117-1.5_SOT223  Reference: U
1A Low drop-out regulator, Fixed Output 1.5V, SOT-223; ki_keywords: REGULATOR LDO 1.5V; ki_fp_filters: SOT?223*TabPin2*; Footprint: Package_TO_SOT_SMD:SOT-223-3_TabPin2; Datasheet: http://www.onsemi.com/pub_link/Collateral/NCP1117-D.PDF; Description_: 1A Low drop-out regulator, Fixed Output 1.5V, SOT-223
pins: 1 GND, 2 VO, 3 VI

## NCP1117-1.5_TO252
designator *  value NCP1117-1.5_TO252  Reference: U
1A Low drop-out regulator, Fixed Output 1.5V, TO-252 (DPAK); ki_keywords: REGULATOR LDO 1.5V; ki_fp_filters: TO?252*; Footprint: Package_TO_SOT_SMD:TO-252-2; Datasheet: http://www.onsemi.com/pub_link/Collateral/NCP1117-D.PDF; Description_: 1A Low drop-out regulator, Fixed Output 1.5V, TO-252 (DPAK)
pins: 1 GND, 2 VO, 3 VI

## NCP1117-1.8_SOT223
designator *  value NCP1117-1.8_SOT223  Reference: U
1A Low drop-out regulator, Fixed Output 1.8V, SOT-223; ki_keywords: REGULATOR LDO 1.8V; ki_fp_filters: SOT?223*TabPin2*; Footprint: Package_TO_SOT_SMD:SOT-223-3_TabPin2; Datasheet: http://www.onsemi.com/pub_link/Collateral/NCP1117-D.PDF; Description_: 1A Low drop-out regulator, Fixed Output 1.8V, SOT-223
pins: 1 GND, 2 VO, 3 VI

## NCP1117-1.8_TO252
designator *  value NCP1117-1.8_TO252  Reference: U
1A Low drop-out regulator, Fixed Output 1.8V, TO-252 (DPAK); ki_keywords: REGULATOR LDO 18.V; ki_fp_filters: TO?252*; Footprint: Package_TO_SOT_SMD:TO-252-2; Datasheet: http://www.onsemi.com/pub_link/Collateral/NCP1117-D.PDF; Description_: 1A Low drop-out regulator, Fixed Output 1.8V, TO-252 (DPAK)
pins: 1 GND, 2 VO, 3 VI

## NCP1117-1.9_TO252
designator *  value NCP1117-1.9_TO252  Reference: U
1A Low drop-out regulator, Fixed Output 1.9V, TO-252 (DPAK); ki_keywords: REGULATOR LDO 1.9V; ki_fp_filters: TO?252*; Footprint: Package_TO_SOT_SMD:TO-252-2; Datasheet: http://www.onsemi.com/pub_link/Collateral/NCP1117-D.PDF; Description_: 1A Low drop-out regulator, Fixed Output 1.9V, TO-252 (DPAK)
pins: 1 GND, 2 VO, 3 VI

## NCP1117-2.0_SOT223
designator *  value NCP1117-2.0_SOT223  Reference: U
1A Low drop-out regulator, Fixed Output 2V, SOT-223; ki_keywords: REGULATOR LDO 2V; ki_fp_filters: SOT?223*TabPin2*; Footprint: Package_TO_SOT_SMD:SOT-223-3_TabPin2; Datasheet: http://www.onsemi.com/pub_link/Collateral/NCP1117-D.PDF; Description_: 1A Low drop-out regulator, Fixed Output 2V, SOT-223
pins: 1 GND, 2 VO, 3 VI

## NCP1117-2.0_TO252
designator *  value NCP1117-2.0_TO252  Reference: U
1A Low drop-out regulator, Fixed Output 2.0V, TO-252 (DPAK); ki_keywords: REGULATOR LDO 2.0V 2V; ki_fp_filters: TO?252*; Footprint: Package_TO_SOT_SMD:TO-252-2; Datasheet: http://www.onsemi.com/pub_link/Collateral/NCP1117-D.PDF; Description_: 1A Low drop-out regulator, Fixed Output 2.0V, TO-252 (DPAK)
pins: 1 GND, 2 VO, 3 VI

## NCP1117-2.5_SOT223
designator *  value NCP1117-2.5_SOT223  Reference: U
1A Low drop-out regulator, Fixed Output 2.5V, SOT-223; ki_keywords: REGULATOR LDO 2.5V; ki_fp_filters: SOT?223*TabPin2*; Footprint: Package_TO_SOT_SMD:SOT-223-3_TabPin2; Datasheet: http://www.onsemi.com/pub_link/Collateral/NCP1117-D.PDF; Description_: 1A Low drop-out regulator, Fixed Output 2.5V, SOT-223
pins: 1 GND, 2 VO, 3 VI

## NCP1117-2.5_TO252
designator *  value NCP1117-2.5_TO252  Reference: U
1A Low drop-out regulator, Fixed Output 2.5V, TO-252 (DPAK); ki_keywords: REGULATOR LDO 2.5V; ki_fp_filters: TO?252*; Footprint: Package_TO_SOT_SMD:TO-252-2; Datasheet: http://www.onsemi.com/pub_link/Collateral/NCP1117-D.PDF; Description_: 1A Low drop-out regulator, Fixed Output 2.5V, TO-252 (DPAK)
pins: 1 GND, 2 VO, 3 VI

## NCP1117-2.85_SOT223
designator *  value NCP1117-2.85_SOT223  Reference: U
1A Low drop-out regulator, Fixed Output 2.85V, SOT-223; ki_keywords: REGULATOR LDO 2.85V; ki_fp_filters: SOT?223*TabPin2*; Footprint: Package_TO_SOT_SMD:SOT-223-3_TabPin2; Datasheet: http://www.onsemi.com/pub_link/Collateral/NCP1117-D.PDF; Description_: 1A Low drop-out regulator, Fixed Output 2.85V, SOT-223
pins: 1 GND, 2 VO, 3 VI

## NCP1117-2.85_TO252
designator *  value NCP1117-2.85_TO252  Reference: U
1A Low drop-out regulator, Fixed Output 2.85V, TO-252 (DPAK); ki_keywords: REGULATOR LDO 2.85V; ki_fp_filters: TO?252*; Footprint: Package_TO_SOT_SMD:TO-252-2; Datasheet: http://www.onsemi.com/pub_link/Collateral/NCP1117-D.PDF; Description_: 1A Low drop-out regulator, Fixed Output 2.85V, TO-252 (DPAK)
pins: 1 GND, 2 VO, 3 VI

## NCP1117-3.3_SOT223
designator *  value NCP1117-3.3_SOT223  Reference: U
1A Low drop-out regulator, Fixed Output 3.3V, SOT-223; ki_keywords: REGULATOR LDO 3.3V; ki_fp_filters: SOT?223*TabPin2*; Footprint: Package_TO_SOT_SMD:SOT-223-3_TabPin2; Datasheet: http://www.onsemi.com/pub_link/Collateral/NCP1117-D.PDF; Description_: 1A Low drop-out regulator, Fixed Output 3.3V, SOT-223
pins: 1 GND, 2 VO, 3 VI

## NCP1117-3.3_TO252
designator *  value NCP1117-3.3_TO252  Reference: U
1A Low drop-out regulator, Fixed Output 3.3V, TO-252 (DPAK); ki_keywords: REGULATOR LDO 3.3V; ki_fp_filters: TO?252*; Footprint: Package_TO_SOT_SMD:TO-252-2; Datasheet: http://www.onsemi.com/pub_link/Collateral/NCP1117-D.PDF; Description_: 1A Low drop-out regulator, Fixed Output 3.3V, TO-252 (DPAK)
pins: 1 GND, 2 VO, 3 VI

## NCP1117-5.0_SOT223
designator *  value NCP1117-5.0_SOT223  Reference: U
1A Low drop-out regulator, Fixed Output 5V, SOT-223; ki_keywords: REGULATOR LDO 5V; ki_fp_filters: SOT?223*TabPin2*; Footprint: Package_TO_SOT_SMD:SOT-223-3_TabPin2; Datasheet: http://www.onsemi.com/pub_link/Collateral/NCP1117-D.PDF; Description_: 1A Low drop-out regulator, Fixed Output 5V, SOT-223
pins: 1 GND, 2 VO, 3 VI

## NCP1117-5.0_TO252
designator *  value NCP1117-5.0_TO252  Reference: U
1A Low drop-out regulator, Fixed Output 5.0V, TO-252 (DPAK); ki_keywords: REGULATOR LDO 5.0V 5V; ki_fp_filters: TO?252*; Footprint: Package_TO_SOT_SMD:TO-252-2; Datasheet: http://www.onsemi.com/pub_link/Collateral/NCP1117-D.PDF; Description_: 1A Low drop-out regulator, Fixed Output 5.0V, TO-252 (DPAK)
pins: 1 GND, 2 VO, 3 VI

## NCP1117-12_SOT223
designator *  value NCP1117-12_SOT223  Reference: U
1A Low drop-out regulator, Fixed Output 12V, SOT-223; ki_keywords: REGULATOR LDO 12V; ki_fp_filters: SOT?223*TabPin2*; Footprint: Package_TO_SOT_SMD:SOT-223-3_TabPin2; Datasheet: http://www.onsemi.com/pub_link/Collateral/NCP1117-D.PDF; Description_: 1A Low drop-out regulator, Fixed Output 12V, SOT-223
pins: 1 GND, 2 VO, 3 VI

## NCP1117-12_TO252
designator *  value NCP1117-12_TO252  Reference: U
1A Low drop-out regulator, Fixed Output 12V, TO-252 (DPAK); ki_keywords: REGULATOR LDO 12V; ki_fp_filters: TO?252*; Footprint: Package_TO_SOT_SMD:TO-252-2; Datasheet: http://www.onsemi.com/pub_link/Collateral/NCP1117-D.PDF; Description_: 1A Low drop-out regulator, Fixed Output 12V, TO-252 (DPAK)
pins: 1 GND, 2 VO, 3 VI

## NCP1117-ADJ_SOT223
designator *  value NCP1117-ADJ_SOT223  Reference: U
1A Low drop-out regulator, Adjustable Output 1.25 - 18.8V, SOT-223; ki_keywords: REGULATOR LDO 12V; ki_fp_filters: SOT?223*TabPin2*; Footprint: Package_TO_SOT_SMD:SOT-223-3_TabPin2; Datasheet: http://www.onsemi.com/pub_link/Collateral/NCP1117-D.PDF; Description_: 1A Low drop-out regulator, Adjustable Output 1.25 - 18.8V, SOT-223
pins: 1 ADJ, 2 VO, 3 VI

## NCP1117-ADJ_TO252
designator *  value NCP1117-ADJ_TO252  Reference: U
1A Low drop-out regulator, Adjustable Output 1.25 - 18.8V, TO-252 (DPAK); ki_keywords: REGULATOR LDO ADJUSTABLE; ki_fp_filters: TO?252*; Footprint: Package_TO_SOT_SMD:TO-252-2; Datasheet: http://www.onsemi.com/pub_link/Collateral/NCP1117-D.PDF; Description_: 1A Low drop-out regulator, Adjustable Output 1.25 - 18.8V, TO-252 (DPAK)
pins: 1 ADJ, 2 VO, 3 VI

## NCV8114ASN120T1G
designator *  value NCV8114ASN120T1G  Reference: U
300mA, Low Noise, Linear Regulator with output active discharge function, 1.7-5.5V input voltage range, 1.2V fixed positive output, TSOT-23-5; ki_keywords: linear regulator ldo fixed positive; ki_fp_filters: TSOT?23*; Footprint: Package_TO_SOT_SMD:TSOT-23-5; Datasheet: https://ru.mouser.com/datasheet/2/308/NCV8114-D-1107616.pdf; Description_: 300mA, Low Noise, Linear Regulator with output active discharge function, 1.7-5.5V input voltage range, 1.2V fixed positive output, TSOT-23-5
pins: 1 IN, 2 GND, 3 EN, 4 NC, 5 OUT

## NCV8114ASN150T1G
designator *  value NCV8114ASN150T1G  Reference: U
300mA, Low Noise, Linear Regulator with output active discharge function, 1.7-5.5V input voltage range, 1.5V fixed positive output, TSOT-23-5; ki_keywords: linear regulator ldo fixed positive; ki_fp_filters: TSOT?23*; Footprint: Package_TO_SOT_SMD:TSOT-23-5; Datasheet: https://ru.mouser.com/datasheet/2/308/NCV8114-D-1107616.pdf; Description_: 300mA, Low Noise, Linear Regulator with output active discharge function, 1.7-5.5V input voltage range, 1.5V fixed positive output, TSOT-23-5
pins: 1 IN, 2 GND, 3 EN, 4 NC, 5 OUT

## NCV8114ASN165T1G
designator *  value NCV8114ASN165T1G  Reference: U
300mA, Low Noise, Linear Regulator with output active discharge function, 1.7-5.5V input voltage range, 1.65V fixed positive output, TSOT-23-5; ki_keywords: linear regulator ldo fixed positive; ki_fp_filters: TSOT?23*; Footprint: Package_TO_SOT_SMD:TSOT-23-5; Datasheet: https://ru.mouser.com/datasheet/2/308/NCV8114-D-1107616.pdf; Description_: 300mA, Low Noise, Linear Regulator with output active discharge function, 1.7-5.5V input voltage range, 1.65V fixed positive output, TSOT-23-5
pins: 1 IN, 2 GND, 3 EN, 4 NC, 5 OUT

## NCV8114ASN180T1G
designator *  value NCV8114ASN180T1G  Reference: U
300mA, Low Noise, Linear Regulator with output active discharge function, 1.7-5.5V input voltage range, 1.8V fixed positive output, TSOT-23-5; ki_keywords: linear regulator ldo fixed positive; ki_fp_filters: TSOT?23*; Footprint: Package_TO_SOT_SMD:TSOT-23-5; Datasheet: https://ru.mouser.com/datasheet/2/308/NCV8114-D-1107616.pdf; Description_: 300mA, Low Noise, Linear Regulator with output active discharge function, 1.7-5.5V input voltage range, 1.8V fixed positive output, TSOT-23-5
pins: 1 IN, 2 GND, 3 EN, 4 NC, 5 OUT

## NCV8114ASN250T1G
designator *  value NCV8114ASN250T1G  Reference: U
300mA, Low Noise, Linear Regulator with output active discharge function, 1.7-5.5V input voltage range, 2.5V fixed positive output, TSOT-23-5; ki_keywords: linear regulator ldo fixed positive; ki_fp_filters: TSOT?23*; Footprint: Package_TO_SOT_SMD:TSOT-23-5; Datasheet: https://ru.mouser.com/datasheet/2/308/NCV8114-D-1107616.pdf; Description_: 300mA, Low Noise, Linear Regulator with output active discharge function, 1.7-5.5V input voltage range, 2.5V fixed positive output, TSOT-23-5
pins: 1 IN, 2 GND, 3 EN, 4 NC, 5 OUT

## NCV8114ASN280T1G
designator *  value NCV8114ASN280T1G  Reference: U
300mA, Low Noise, Linear Regulator with output active discharge function, 1.7-5.5V input voltage range, 2.8V fixed positive output, TSOT-23-5; ki_keywords: linear regulator ldo fixed positive; ki_fp_filters: TSOT?23*; Footprint: Package_TO_SOT_SMD:TSOT-23-5; Datasheet: https://ru.mouser.com/datasheet/2/308/NCV8114-D-1107616.pdf; Description_: 300mA, Low Noise, Linear Regulator with output active discharge function, 1.7-5.5V input voltage range, 2.8V fixed positive output, TSOT-23-5
pins: 1 IN, 2 GND, 3 EN, 4 NC, 5 OUT

## NCV8114ASN300T1G
designator *  value NCV8114ASN300T1G  Reference: U
300mA, Low Noise, Linear Regulator with output active discharge function, 1.7-5.5V input voltage range, 3.0V fixed positive output, TSOT-23-5; ki_keywords: linear regulator ldo fixed positive; ki_fp_filters: TSOT?23*; Footprint: Package_TO_SOT_SMD:TSOT-23-5; Datasheet: https://ru.mouser.com/datasheet/2/308/NCV8114-D-1107616.pdf; Description_: 300mA, Low Noise, Linear Regulator with output active discharge function, 1.7-5.5V input voltage range, 3.0V fixed positive output, TSOT-23-5
pins: 1 IN, 2 GND, 3 EN, 4 NC, 5 OUT

## NCV8114ASN330T1G
designator *  value NCV8114ASN330T1G  Reference: U
300mA, Low Noise, Linear Regulator with output active discharge function, 1.7-5.5V input voltage range, 3.3V fixed positive output, TSOT-23-5; ki_keywords: linear regulator ldo fixed positive; ki_fp_filters: TSOT?23*; Footprint: Package_TO_SOT_SMD:TSOT-23-5; Datasheet: https://ru.mouser.com/datasheet/2/308/NCV8114-D-1107616.pdf; Description_: 300mA, Low Noise, Linear Regulator with output active discharge function, 1.7-5.5V input voltage range, 3.3V fixed positive output, TSOT-23-5
pins: 1 IN, 2 GND, 3 EN, 4 NC, 5 OUT

## NCV8114BSN120T1G
designator *  value NCV8114BSN120T1G  Reference: U
300mA, Low Noise, Linear Regulator without output active discharge function, 1.7-5.5V input voltage range, 1.2V fixed positive output, TSOT-23-5; ki_keywords: linear regulator ldo fixed positive; ki_fp_filters: TSOT?23*; Footprint: Package_TO_SOT_SMD:TSOT-23-5; Datasheet: https://ru.mouser.com/datasheet/2/308/NCV8114-D-1107616.pdf; Description_: 300mA, Low Noise, Linear Regulator without output active discharge function, 1.7-5.5V input voltage range, 1.2V fixed positive output, TSOT-23-5
pins: 1 IN, 2 GND, 3 EN, 4 NC, 5 OUT

## NCV8114BSN150T1G
designator *  value NCV8114BSN150T1G  Reference: U
300mA, Low Noise, Linear Regulator without output active discharge function, 1.7-5.5V input voltage range, 1.5V fixed positive output, TSOT-23-5; ki_keywords: linear regulator ldo fixed positive; ki_fp_filters: TSOT?23*; Footprint: Package_TO_SOT_SMD:TSOT-23-5; Datasheet: https://ru.mouser.com/datasheet/2/308/NCV8114-D-1107616.pdf; Description_: 300mA, Low Noise, Linear Regulator without output active discharge function, 1.7-5.5V input voltage range, 1.5V fixed positive output, TSOT-23-5
pins: 1 IN, 2 GND, 3 EN, 4 NC, 5 OUT

## NCV8114BSN180T1G
designator *  value NCV8114BSN180T1G  Reference: U
300mA, Low Noise, Linear Regulator without output active discharge function, 1.7-5.5V input voltage range, 1.8V fixed positive output, TSOT-23-5; ki_keywords: linear regulator ldo fixed positive; ki_fp_filters: TSOT?23*; Footprint: Package_TO_SOT_SMD:TSOT-23-5; Datasheet: https://ru.mouser.com/datasheet/2/308/NCV8114-D-1107616.pdf; Description_: 300mA, Low Noise, Linear Regulator without output active discharge function, 1.7-5.5V input voltage range, 1.8V fixed positive output, TSOT-23-5
pins: 1 IN, 2 GND, 3 EN, 4 NC, 5 OUT

## NCV8114BSN280T1G
designator *  value NCV8114BSN280T1G  Reference: U
300mA, Low Noise, Linear Regulator without output active discharge function, 1.7-5.5V input voltage range, 2.8V fixed positive output, TSOT-23-5; ki_keywords: linear regulator ldo fixed positive; ki_fp_filters: TSOT?23*; Footprint: Package_TO_SOT_SMD:TSOT-23-5; Datasheet: https://ru.mouser.com/datasheet/2/308/NCV8114-D-1107616.pdf; Description_: 300mA, Low Noise, Linear Regulator without output active discharge function, 1.7-5.5V input voltage range, 2.8V fixed positive output, TSOT-23-5
pins: 1 IN, 2 GND, 3 EN, 4 NC, 5 OUT

## NCV8114BSN300T1G
designator *  value NCV8114BSN300T1G  Reference: U
300mA, Low Noise, Linear Regulator without output active discharge function, 1.7-5.5V input voltage range, 3.0V fixed positive output, TSOT-23-5; ki_keywords: linear regulator ldo fixed positive; ki_fp_filters: TSOT?23*; Footprint: Package_TO_SOT_SMD:TSOT-23-5; Datasheet: https://ru.mouser.com/datasheet/2/308/NCV8114-D-1107616.pdf; Description_: 300mA, Low Noise, Linear Regulator without output active discharge function, 1.7-5.5V input voltage range, 3.0V fixed positive output, TSOT-23-5
pins: 1 IN, 2 GND, 3 EN, 4 NC, 5 OUT

## NCV8114BSN330T1G
designator *  value NCV8114BSN330T1G  Reference: U
300mA, Low Noise, Linear Regulator without output active discharge function, 1.7-5.5V input voltage range, 3.3V fixed positive output, TSOT-23-5; ki_keywords: linear regulator ldo fixed positive; ki_fp_filters: TSOT?23*; Footprint: Package_TO_SOT_SMD:TSOT-23-5; Datasheet: https://ru.mouser.com/datasheet/2/308/NCV8114-D-1107616.pdf; Description_: 300mA, Low Noise, Linear Regulator without output active discharge function, 1.7-5.5V input voltage range, 3.3V fixed positive output, TSOT-23-5
pins: 1 IN, 2 GND, 3 EN, 4 NC, 5 OUT

## NDP6802SF-33
designator *  value NDP6802SF-33  Reference: U
Positive 100mA 85Vin Linear Regulator, Fixed Output 3.3V, SOT-89; ki_keywords: Voltage Regulator 100mA Positive; ki_fp_filters: SOT?89*; Footprint: Package_TO_SOT_SMD:SOT-89-3; Datasheet: https://www.lcsc.com/datasheet/lcsc_datasheet_2401051806_NDP-NDP6802SF-33_C20415512.pdf; Description_: Positive 100mA 85Vin Linear Regulator, Fixed Output 3.3V, SOT-89
pins: 1 OUT, 2 GND, 3 IN

## NDP6802SF-50
designator *  value NDP6802SF-50  Reference: U
Positive 100mA 85Vin Linear Regulator, Fixed Output 5V, SOT-89; ki_keywords: Voltage Regulator 100mA Positive; ki_fp_filters: SOT?89*; Footprint: Package_TO_SOT_SMD:SOT-89-3; Datasheet: https://www.lcsc.com/datasheet/lcsc_datasheet_2401051806_NDP-NDP6802SF-33_C20415512.pdf; Description_: Positive 100mA 85Vin Linear Regulator, Fixed Output 5V, SOT-89
pins: 1 OUT, 2 GND, 3 IN

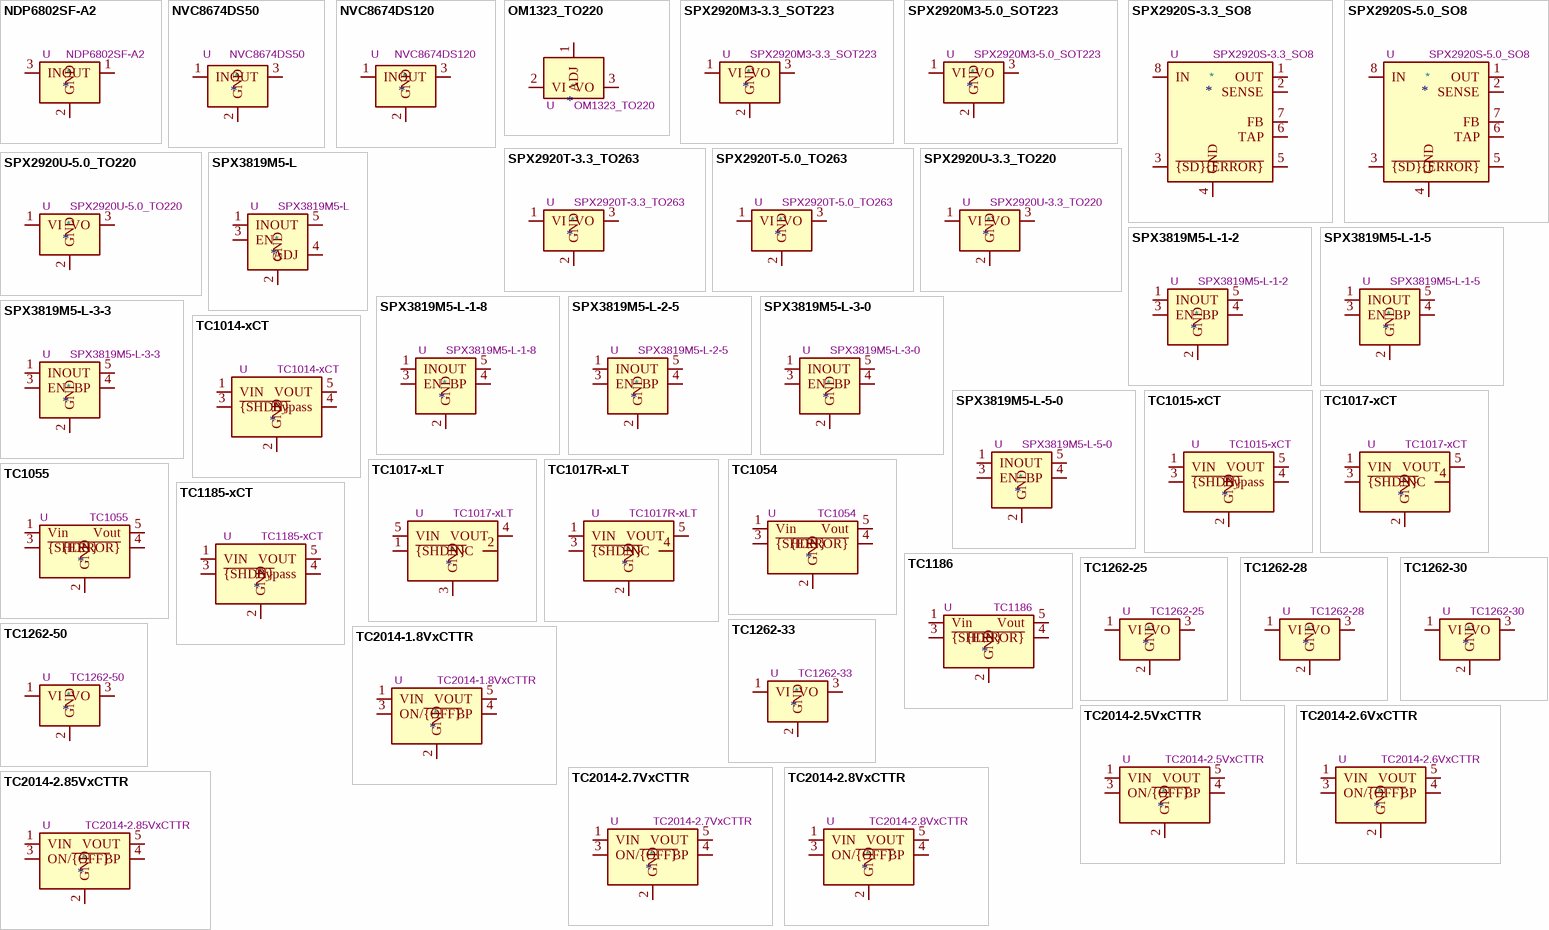
[diagram p31: symbols NDP6802SF-A2 to TC2014-2.85VxCTTR]

## NDP6802SF-A2
designator *  value NDP6802SF-A2  Reference: U
Positive 100mA 85Vin Linear Regulator, Fixed Output 12V, SOT-89; ki_keywords: Voltage Regulator 100mA Positive; ki_fp_filters: SOT?89*; Footprint: Package_TO_SOT_SMD:SOT-89-3; Datasheet: https://www.lcsc.com/datasheet/lcsc_datasheet_2401051806_NDP-NDP6802SF-33_C20415512.pdf; Description_: Positive 100mA 85Vin Linear Regulator, Fixed Output 12V, SOT-89
pins: 1 OUT, 2 GND, 3 IN

## NVC8674DS50
designator *  value NVC8674DS50  Reference: U
350mA, 5.0V Very Low Iq Low Dropout Linear Regulator, TO-263-2; ki_keywords: ldo regulator 5V; ki_fp_filters: TO*263*; Footprint: Package_TO_SOT_SMD:TO-263-2; Datasheet: https://www.onsemi.com/pub/Collateral/NCV8674-D.PDF; Description_: 350mA, 5.0V Very Low Iq Low Dropout Linear Regulator, TO-263-2
pins: 1 IN, 2 GND, 3 OUT

## NVC8674DS120
designator *  value NVC8674DS120  Reference: U
350mA, 12.0V Very Low Iq Low Dropout Linear Regulator, TO-263-2; ki_keywords: ldo regulator 12V; ki_fp_filters: TO*263*; Footprint: Package_TO_SOT_SMD:TO-263-2; Datasheet: https://www.onsemi.com/pub/Collateral/NCV8674-D.PDF; Description_: 350mA, 12.0V Very Low Iq Low Dropout Linear Regulator, TO-263-2
pins: 1 IN, 2 GND, 3 OUT

## OM1323_TO220
designator *  value OM1323_TO220  Reference: U
Negative 1.5A 35V Adjustable Linear Regulator, TO-220; ki_keywords: Adjustable Voltage Regulator 1.5A Negative; ki_fp_filters: TO?220*; Footprint: Package_TO_SOT_THT:TO-220-3_Vertical; Datasheet: http://www.irf.com/product-info/datasheets/hirel/om1323.pdf; Description_: Negative 1.5A 35V Adjustable Linear Regulator, TO-220
pins: 1 ADJ, 2 VI, 3 VO

## SPX2920M3-3.3_SOT223
designator *  value SPX2920M3-3.3_SOT223  Reference: U
400mA Low drop-out regulator, Fixed Output 3.3V, SOT-223; ki_keywords: REGULATOR LDO 3.3V; ki_fp_filters: SOT?223*; Footprint: Package_TO_SOT_SMD:SOT-223-3_TabPin2; Datasheet: http://www.zlgmcu.com/Sipex/LDO/PDF/spx2920.pdf; Description_: 400mA Low drop-out regulator, Fixed Output 3.3V, SOT-223
pins: 1 VI, 2 GND, 3 VO

## SPX2920M3-5.0_SOT223
designator *  value SPX2920M3-5.0_SOT223  Reference: U
400mA Low drop-out regulator, Fixed Output 5V, SOT-223; ki_keywords: REGULATOR LDO 5V; ki_fp_filters: SOT?223*; Footprint: Package_TO_SOT_SMD:SOT-223-3_TabPin2; Datasheet: http://www.zlgmcu.com/Sipex/LDO/PDF/spx2920.pdf; Description_: 400mA Low drop-out regulator, Fixed Output 5V, SOT-223
pins: 1 VI, 2 GND, 3 VO

## SPX2920S-3.3_SO8
designator *  value SPX2920S-3.3_SO8  Reference: U
400mA Fixed/Adjustable 1.2-20V Low Drop-out Voltage Regulator, SO-8; ki_keywords: LDO Voltage Regulator 400mA 3.3V Adjustable; ki_fp_filters: SOIC*3.9x4.9mm*P1.27mm*; Footprint: Package_SO:SOIC-8_3.9x4.9mm_P1.27mm; Datasheet: http://www.zlgmcu.com/Sipex/LDO/PDF/spx2920.pdf; Description_: 400mA Fixed/Adjustable 1.2-20V Low Drop-out Voltage Regulator, SO-8
pins: 1 OUT, 2 SENSE, 3 ~{{SD}}, 4 GND, 5 ~{{ERROR}}, 6 TAP, 7 FB, 8 IN

## SPX2920S-5.0_SO8
designator *  value SPX2920S-5.0_SO8  Reference: U
400mA Fixed/Adjustable 1.2-20V Low Drop-out Voltage Regulator, SO-8; ki_keywords: LDO Voltage Regulator 400mA 5V Adjustable; ki_fp_filters: SOIC*3.9x4.9mm*P1.27mm*; Footprint: Package_SO:SOIC-8_3.9x4.9mm_P1.27mm; Datasheet: http://www.zlgmcu.com/Sipex/LDO/PDF/spx2920.pdf; Description_: 400mA Fixed/Adjustable 1.2-20V Low Drop-out Voltage Regulator, SO-8
pins: 1 OUT, 2 SENSE, 3 ~{{SD}}, 4 GND, 5 ~{{ERROR}}, 6 TAP, 7 FB, 8 IN

## SPX2920T-3.3_TO263
designator *  value SPX2920T-3.3_TO263  Reference: U
400mA Low drop-out regulator, Fixed Output 3.3V, TO-263; ki_keywords: REGULATOR LDO 3.3V; ki_fp_filters: TO?263*; Footprint: Package_TO_SOT_SMD:TO-263-3_TabPin2; Datasheet: http://www.zlgmcu.com/Sipex/LDO/PDF/spx2920.pdf; Description_: 400mA Low drop-out regulator, Fixed Output 3.3V, TO-263
pins: 1 VI, 2 GND, 3 VO

## SPX2920T-5.0_TO263
designator *  value SPX2920T-5.0_TO263  Reference: U
400mA Low drop-out regulator, Fixed Output 5V, TO-263; ki_keywords: REGULATOR LDO 5V; ki_fp_filters: TO?263*; Footprint: Package_TO_SOT_SMD:TO-263-3_TabPin2; Datasheet: http://www.zlgmcu.com/Sipex/LDO/PDF/spx2920.pdf; Description_: 400mA Low drop-out regulator, Fixed Output 5V, TO-263
pins: 1 VI, 2 GND, 3 VO

## SPX2920U-3.3_TO220
designator *  value SPX2920U-3.3_TO220  Reference: U
400mA Low drop-out regulator, Fixed Output 3.3V, TO-220; ki_keywords: REGULATOR LDO 3.3V; ki_fp_filters: TO?220*; Footprint: Package_TO_SOT_THT:TO-220-3_Vertical; Datasheet: http://www.zlgmcu.com/Sipex/LDO/PDF/spx2920.pdf; Description_: 400mA Low drop-out regulator, Fixed Output 3.3V, TO-220
pins: 1 VI, 2 GND, 3 VO

## SPX2920U-5.0_TO220
designator *  value SPX2920U-5.0_TO220  Reference: U
400mA Low drop-out regulator, Fixed Output 5V, TO-220; ki_keywords: REGULATOR LDO 5V; ki_fp_filters: TO?220*; Footprint: Package_TO_SOT_THT:TO-220-3_Vertical; Datasheet: http://www.zlgmcu.com/Sipex/LDO/PDF/spx2920.pdf; Description_: 400mA Low drop-out regulator, Fixed Output 5V, TO-220
pins: 1 VI, 2 GND, 3 VO

## SPX3819M5-L
designator *  value SPX3819M5-L  Reference: U
500mA Low drop-out regulator, Adjustable, SOT-23-5; ki_keywords: REGULATOR LDO ADJ; ki_fp_filters: SOT?23*; Footprint: Package_TO_SOT_SMD:SOT-23-5; Datasheet: https://www.exar.com/content/document.ashx?id=22106&languageid=1033&type=Datasheet&partnumber=SPX3819&filename=SPX3819.pdf&part=SPX3819; Description_: 500mA Low drop-out regulator, Adjustable, SOT-23-5
pins: 1 IN, 2 GND, 3 EN, 4 ADJ, 5 OUT

## SPX3819M5-L-1-2
designator *  value SPX3819M5-L-1-2  Reference: U
500mA Low drop-out regulator, Fixed Output 1.2V, SOT-23-5; ki_keywords: REGULATOR LDO 1.2V; ki_fp_filters: SOT?23*; Footprint: Package_TO_SOT_SMD:SOT-23-5; Datasheet: https://www.exar.com/content/document.ashx?id=22106&languageid=1033&type=Datasheet&partnumber=SPX3819&filename=SPX3819.pdf&part=SPX3819; Description_: 500mA Low drop-out regulator, Fixed Output 1.2V, SOT-23-5
pins: 1 IN, 2 GND, 3 EN, 4 BP, 5 OUT

## SPX3819M5-L-1-5
designator *  value SPX3819M5-L-1-5  Reference: U
500mA Low drop-out regulator, Fixed Output 1.5V, SOT-23-5; ki_keywords: REGULATOR LDO 1.5V; ki_fp_filters: SOT?23*; Footprint: Package_TO_SOT_SMD:SOT-23-5; Datasheet: https://www.exar.com/content/document.ashx?id=22106&languageid=1033&type=Datasheet&partnumber=SPX3819&filename=SPX3819.pdf&part=SPX3819; Description_: 500mA Low drop-out regulator, Fixed Output 1.5V, SOT-23-5
pins: 1 IN, 2 GND, 3 EN, 4 BP, 5 OUT

## SPX3819M5-L-1-8
designator *  value SPX3819M5-L-1-8  Reference: U
500mA Low drop-out regulator, Fixed Output 1.8V, SOT-23-5; ki_keywords: REGULATOR LDO 1.8V; ki_fp_filters: SOT?23*; Footprint: Package_TO_SOT_SMD:SOT-23-5; Datasheet: https://www.exar.com/content/document.ashx?id=22106&languageid=1033&type=Datasheet&partnumber=SPX3819&filename=SPX3819.pdf&part=SPX3819; Description_: 500mA Low drop-out regulator, Fixed Output 1.8V, SOT-23-5
pins: 1 IN, 2 GND, 3 EN, 4 BP, 5 OUT

## SPX3819M5-L-2-5
designator *  value SPX3819M5-L-2-5  Reference: U
500mA Low drop-out regulator, Fixed Output 2.5V, SOT-23-5; ki_keywords: REGULATOR LDO 2.5V; ki_fp_filters: SOT?23*; Footprint: Package_TO_SOT_SMD:SOT-23-5; Datasheet: https://www.exar.com/content/document.ashx?id=22106&languageid=1033&type=Datasheet&partnumber=SPX3819&filename=SPX3819.pdf&part=SPX3819; Description_: 500mA Low drop-out regulator, Fixed Output 2.5V, SOT-23-5
pins: 1 IN, 2 GND, 3 EN, 4 BP, 5 OUT

## SPX3819M5-L-3-0
designator *  value SPX3819M5-L-3-0  Reference: U
500mA Low drop-out regulator, Fixed Output 3.0V, SOT-23-5; ki_keywords: REGULATOR LDO 3.0V; ki_fp_filters: SOT?23*; Footprint: Package_TO_SOT_SMD:SOT-23-5; Datasheet: https://www.exar.com/content/document.ashx?id=22106&languageid=1033&type=Datasheet&partnumber=SPX3819&filename=SPX3819.pdf&part=SPX3819; Description_: 500mA Low drop-out regulator, Fixed Output 3.0V, SOT-23-5
pins: 1 IN, 2 GND, 3 EN, 4 BP, 5 OUT

## SPX3819M5-L-3-3
designator *  value SPX3819M5-L-3-3  Reference: U
500mA Low drop-out regulator, Fixed Output 3.3V, SOT-23-5; ki_keywords: REGULATOR LDO 3.3V; ki_fp_filters: SOT?23*; Footprint: Package_TO_SOT_SMD:SOT-23-5; Datasheet: https://www.exar.com/content/document.ashx?id=22106&languageid=1033&type=Datasheet&partnumber=SPX3819&filename=SPX3819.pdf&part=SPX3819; Description_: 500mA Low drop-out regulator, Fixed Output 3.3V, SOT-23-5
pins: 1 IN, 2 GND, 3 EN, 4 BP, 5 OUT

## SPX3819M5-L-5-0
designator *  value SPX3819M5-L-5-0  Reference: U
500mA Low drop-out regulator, Fixed Output 5.0V, SOT-23-5; ki_keywords: REGULATOR LDO 5.0V; ki_fp_filters: SOT?23*; Footprint: Package_TO_SOT_SMD:SOT-23-5; Datasheet: https://www.exar.com/content/document.ashx?id=22106&languageid=1033&type=Datasheet&partnumber=SPX3819&filename=SPX3819.pdf&part=SPX3819; Description_: 500mA Low drop-out regulator, Fixed Output 5.0V, SOT-23-5
pins: 1 IN, 2 GND, 3 EN, 4 BP, 5 OUT

## TC1014-xCT
designator *  value TC1014-xCT  Reference: U
50 mA CMOS LDOs with Shutdown and Reference Bypass, SOT-23-5; ki_keywords: LDO Linear Voltage Regulator; ki_fp_filters: SOT?23*; Footprint: Package_TO_SOT_SMD:SOT-23-5; Datasheet: https://ww1.microchip.com/downloads/aemDocuments/documents/APID/ProductDocuments/DataSheets/21335e.pdf; Description_: 50 mA CMOS LDOs with Shutdown and Reference Bypass, SOT-23-5
pins: 1 VIN, 2 GND, 3 ~{{SHDN}}, 4 Bypass, 5 VOUT

## TC1015-xCT
designator *  value TC1015-xCT  Reference: U
100 mA CMOS LDOs with Shutdown and Reference Bypass, SOT-23-5; ki_keywords: LDO Linear Voltage Regulator; ki_fp_filters: SOT?23*; Footprint: Package_TO_SOT_SMD:SOT-23-5; Datasheet: https://ww1.microchip.com/downloads/aemDocuments/documents/APID/ProductDocuments/DataSheets/21335e.pdf; Description_: 100 mA CMOS LDOs with Shutdown and Reference Bypass, SOT-23-5
pins: 1 VIN, 2 GND, 3 ~{{SHDN}}, 4 Bypass, 5 VOUT

## TC1017-xCT
designator *  value TC1017-xCT  Reference: U
150mA, Tiny CMOS LDO With Shutdown, SOT-23-5; ki_keywords: LDO Linear Voltage Regulator; ki_fp_filters: SOT?23*; Footprint: Package_TO_SOT_SMD:SOT-23-5; Datasheet: http://ww1.microchip.com/downloads/en/DeviceDoc/21813F.pdf; Description_: 150mA, Tiny CMOS LDO With Shutdown, SOT-23-5
pins: 1 VIN, 2 GND, 3 ~{{SHDN}}, 4 NC, 5 VOUT